# Altium footprint library PCB - RESISTOR - CHIP - RES 1210_3225.PCBLIB: 1 footprints
Each footprint in its own frame and in the unit in brackets; x right, y up, seen from the top. Pads: shape width x height; smd on the part's side, far side on the other; paste and mask are expansions set on the pad; w line width, h text height; cw(c..) or ccw(c..) is an arc to the next point about the centre after c.
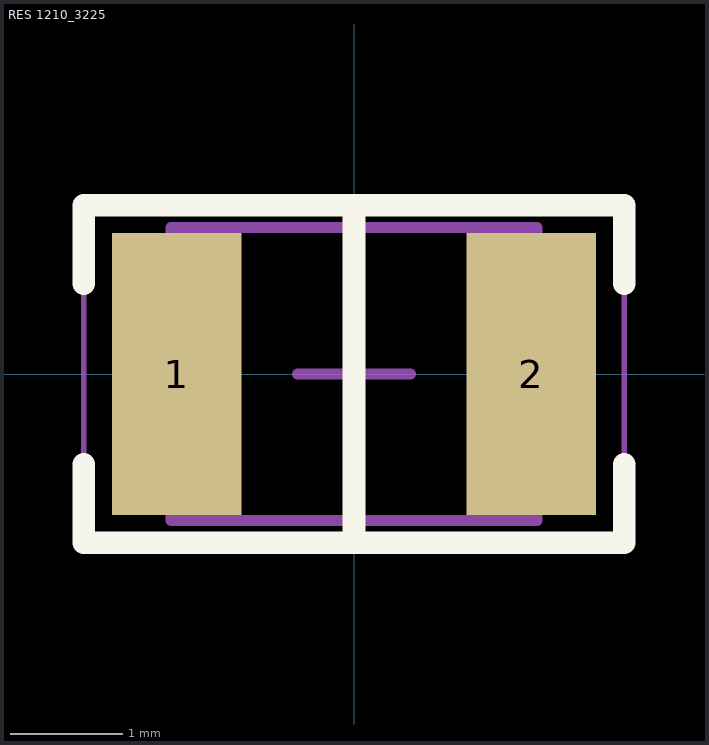
[diagram p0: the footprint, top view; thin cyan lines are the x and y axes]

## RES 1210_3225 [mm] "Chip Resistor, 2-Leads, Body 3.1x2.6mm, IPC Medium Density"
height 0.65
pads (2):
  rect 1.15x2.5 smd: 1(-1.575,0) 2(1.575,0)
Top Overlay:
  lines w0.2: -2.4,-0.8 -2.4,-1.5 2.4,-1.5 2.4,-0.8 ; -2.4,0.8 -2.4,1.5 2.4,1.5 2.4,0.8 ; 0,-1.5 0,1.5
Mechanical 13:
  lines w0.1: -1.625,-1.3 -1.625,1.3 1.625,1.3 1.625,-1.3 -1.625,-1.3
Mechanical 15:
  lines w0.05: -2.4,-1.5 -2.4,1.5 2.4,1.5 2.4,-1.5 -2.4,-1.5
Mechanical 2 (Mech9):
  lines w0.1: -0.5,0 0.5,0 ; 0,-0.5 0,0.5
3D body "RES - 1210.step": height 0.7, standoff 0, extent -1.6,-1.25 1.6,1.25